# Altium footprint library TDKxx-yySzz.PcbLib: 3 footprints
Each footprint in its own frame and in the unit in brackets; x right, y up, seen from the top. Pads: shape width x height; smd on the part's side, far side on the other; paste and mask are expansions set on the pad; w line width, h text height; cw(c..) or ccw(c..) is an arc to the next point about the centre after c.
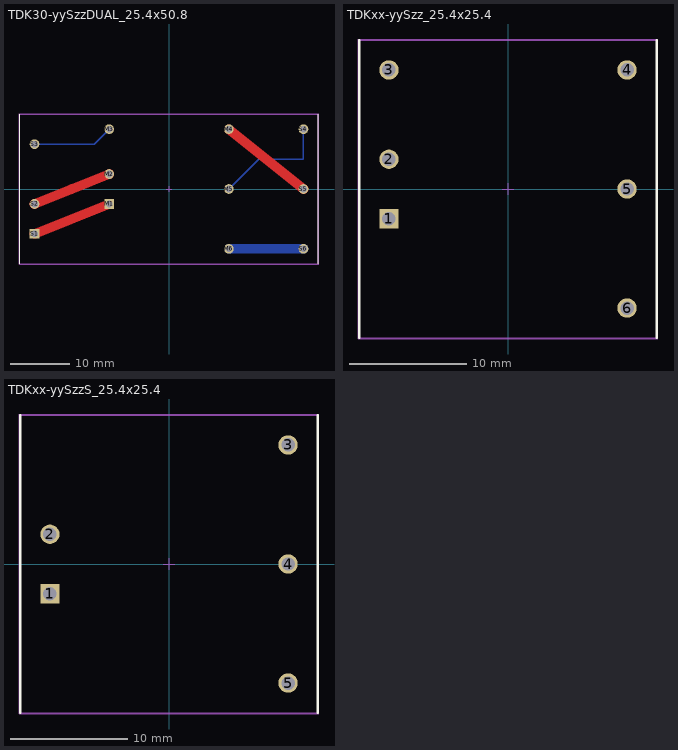
[diagram p0: the footprints below, top view; thin cyan lines are the x and y axes]

## TDK30-yySzzDUAL_25.4x50.8 [mm] "DIP, 2x6-Leads, 25.4x50.8mm²"
pads (12):
  rect 1.65x1.65 hole 1.15: M1(-10.16,-2.54) S1(-22.86,-7.62)
  round 1.65 hole 1.15: M2(-10.16,2.54) M3(-10.16,10.16) M4(10.16,10.16) M5(10.16,0) M6(10.16,-10.16) S2(-22.86,-2.54) S3(-22.86,7.62) S4(22.86,10.16) S5(22.86,0) S6(22.86,-10.16)
Top Layer:
  lines w1.65: -22.86,-7.62 -10.16,-2.54 ; -22.86,-2.54 -16.51,0 -10.16,2.54 ; 10.16,10.16 22.86,0
Bottom Layer:
  lines w0.254: -22.86,7.62 -12.7,7.62 -10.16,10.16 ; 10.16,0 15.24,5.08 22.86,5.08 22.86,10.16
  lines w1.65: 10.16,-10.16 22.86,-10.16
Top Overlay:
  lines w0.2: -25.4,-12.7 -25.4,12.7 ; 25.4,-12.7 25.4,12.7
Mechanical 13:
  lines w0.1: -25.4,-12.7 25.4,-12.7 25.4,12.7 -25.4,12.7 -25.4,-12.7
Mechanical 15:
  lines w0.05: -25.5,-12.8 -25.5,12.8 25.5,12.8 25.5,-12.8 -25.5,-12.8
  lines w0.1: -0.5,0 0.5,0 ; 0,-0.5 0,0.5

## TDKxx-yySzz_25.4x25.4 [mm] "DIP, 1x6-Leads, 25.4x25.4mm²"
pads (6):
  rect 1.65x1.65 hole 1.15: 1(-10.16,-2.54)
  round 1.65 hole 1.15: 2(-10.16,2.54) 3(-10.16,10.16) 4(10.16,10.16) 5(10.16,0) 6(10.16,-10.16)
Top Overlay:
  lines w0.2: -12.7,-12.7 -12.7,12.7 ; 12.7,-12.7 12.7,12.7
Mechanical 13:
  lines w0.1: -12.7,-12.7 -12.7,12.7 12.7,12.7 12.7,-12.7 -12.7,-12.7
Mechanical 15:
  lines w0.05: -12.8,-12.8 12.8,-12.8 12.8,12.8 -12.8,12.8 -12.8,-12.8
  lines w0.1: -0.5,0 0.5,0 ; 0,-0.5 0,0.5

## TDKxx-yySzzS_25.4x25.4 [mm] "DIP, 1x6-Leads, 25.4x25.4mm²"
pads (5):
  rect 1.65x1.65 hole 1.15: 1(-10.16,-2.54)
  round 1.65 hole 1.15: 2(-10.16,2.54) 3(10.16,10.16) 4(10.16,0) 5(10.16,-10.16)
Top Overlay:
  lines w0.2: -12.7,-12.7 -12.7,12.7 ; 12.7,-12.7 12.7,12.7
Mechanical 13:
  lines w0.1: -12.7,-12.7 -12.7,12.7 12.7,12.7 12.7,-12.7 -12.7,-12.7
Mechanical 15:
  lines w0.05: -12.8,-12.8 12.8,-12.8 12.8,12.8 -12.8,12.8 -12.8,-12.8
  lines w0.1: -0.5,0 0.5,0 ; 0,-0.5 0,0.5